# Altium footprint library lm324.PCBLIB: 1 footprints
Each footprint in its own frame and in the unit in brackets; x right, y up, seen from the top. Pads: shape width x height; smd on the part's side, far side on the other; paste and mask are expansions set on the pad; w line width, h text height; cw(c..) or ccw(c..) is an arc to the next point about the centre after c.
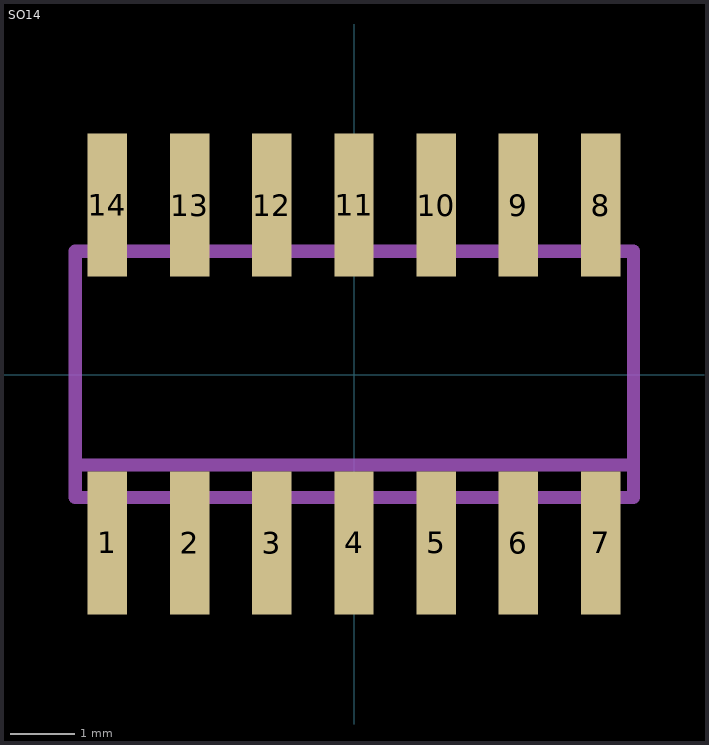
[diagram p0: the footprint, top view; thin cyan lines are the x and y axes]

## SO14 [mil]
pads (14):
  rect 24x87 smd: 1(-150,-102.36) 2(-100,-102.36) 3(-50,-102.36) 4(0,-102.36) 5(50,-102.36) 6(100,-102.36) 7(150,-102.36) 8(150,103) 9(100,103) 10(50,103) 11(0,103) 12(-50,103) 13(-100,103) 14(-150,103)
Mechanical 16:
  rectangle: -159.65,-122.05 -140.35,-78.74
  rectangle: -109.65,-122.05 -90.35,-78.74
  rectangle: -59.65,-122.05 -40.35,-78.74
  rectangle: -9.65,-122.05 10,-78.74
  rectangle: -9.65,79 10,123
  rectangle: -59.65,79 -40.35,123
  rectangle: -109.65,79 -90.35,123
  rectangle: -159.65,79 -140.35,123
  rectangle: 41,-122.05 60,-78.74
  rectangle: 91,-122.05 110,-78.74
  rectangle: 141,-122.05 160,-78.74
  rectangle: 141,79 160,123
  rectangle: 91,79 110,123
  rectangle: 41,79 60,123
  lines w8: -169.49,-55.12 -169.49,-74.8 170,-74.8 170,-55.12 ; -169.49,-55.12 -169.49,75 170,75 170,-55.12 ; -169.49,-55.12 170,-55.12